# Altium footprint library SamacSys.PcbLib: 6 footprints
Each footprint in its own frame and in the unit in brackets; x right, y up, seen from the top. Pads: shape width x height; smd on the part's side, far side on the other; paste and mask are expansions set on the pad; w line width, h text height; cw(c..) or ccw(c..) is an arc to the next point about the centre after c.
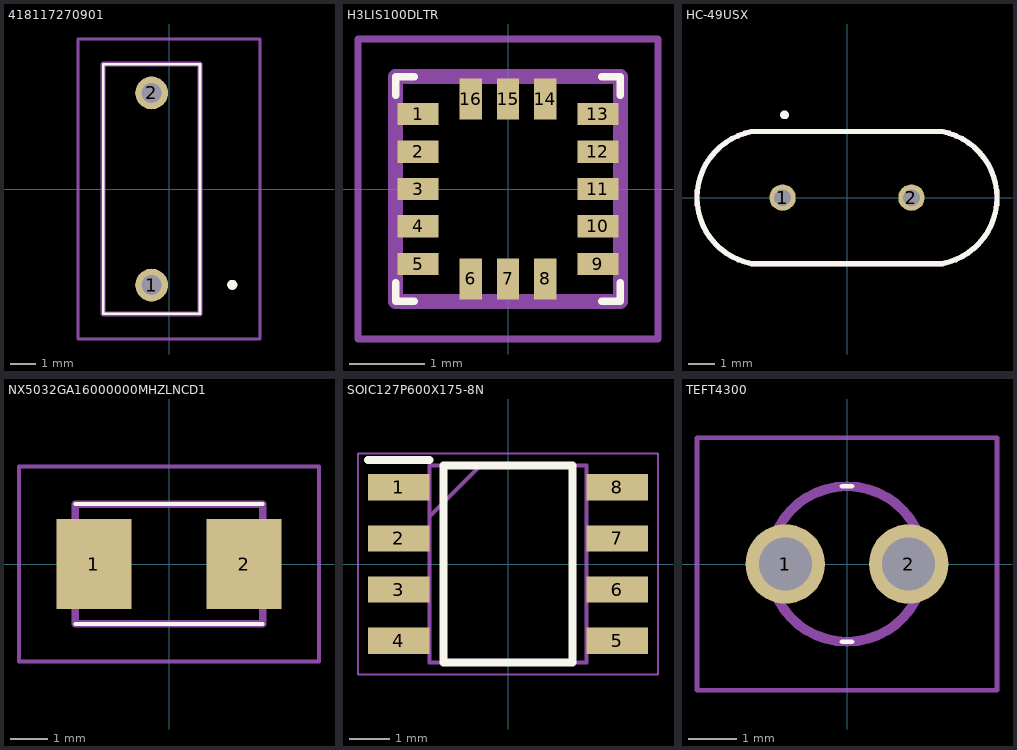
[diagram p0: the footprints below, top view; thin cyan lines are the x and y axes]

## 418117270901 [mm]
pads (2):
  round 1.3 hole 0.8: 1(-0.69,-3.81) 2(-0.69,3.81)
Top Overlay:
  lines w0.1: -2.61,-4.95 -2.61,4.95 1.23,4.95 1.23,-4.95 -2.61,-4.95
  lines w0.2: 2.51,-3.9 ccw(c2.51,-3.8) 2.51,-3.7 ccw(c2.51,-3.8) 2.51,-3.9
Mechanical 13:
  lines w0.2: -2.61,-4.95 -2.61,4.95 1.23,4.95 1.23,-4.95 -2.61,-4.95
Mechanical 15:
  lines w0.1: -3.61,-5.95 -3.61,5.95 3.61,5.95 3.61,-5.95 -3.61,-5.95
3D body "418117270901.stp": height 6.45, standoff -4.1, extent -2.73,-4.95 1.11,4.95

## H3LIS100DLTR [mm]
pads (16):
  rect 0.55x0.3 smd: 1(-1.2,1) 2(-1.2,0.5) 3(-1.2,0) 4(-1.2,-0.5) 5(-1.2,-1) 9(1.2,-1) 10(1.2,-0.5) 11(1.2,0) 12(1.2,0.5) 13(1.2,1)
  rect 0.3x0.55 smd: 6(-0.5,-1.2) 7(0,-1.2) 8(0.5,-1.2) 14(0.5,1.2) 15(0,1.2) 16(-0.5,1.2)
Top Overlay:
  lines w0.1: -1.5,-1.25 -1.5,-1.5 -1.25,-1.5 ; -1.5,1.25 -1.5,1.5 -1.25,1.5 ; 1.25,-1.5 1.5,-1.5 1.5,-1.25 ; 1.25,1.5 1.5,1.5 1.5,1.25
Mechanical 13:
  lines w0.2: -1.5,-1.5 -1.5,1.5 1.5,1.5 1.5,-1.5 -1.5,-1.5
Mechanical 15:
  lines w0.1: -2,-2 -2,2 2,2 2,-2 -2,-2
3D body "L3GD20HTR.stp": height 1, standoff 0, extent -1.5,-1.5 1.5,1.5

## HC-49USX [mm]
pads (2):
  round 1 hole 0.63: 1(-2.44,0) 2(2.44,0)
Top Overlay:
  circle w0.2: c-2.366,3.133 r0.065
  lines w0.2: -3.602,2.5 ccw(c-3.134,0) -3.597,-2.501 ; -3.6,-2.5 3.6,-2.5 ; -3.6,2.5 3.6,2.5 ; 3.597,-2.501 ccw(c3.134,0) 3.602,2.5
Mechanical 13:
  lines w0.2: -3.602,-2.5 cw(c-3.134,0) -3.597,2.501 ; -3.6,-2.5 3.6,-2.5 ; -3.6,2.5 3.6,2.5 ; 3.597,-2.501 ccw(c3.134,0) 3.602,2.5

## NX5032GA16000000MHZLNCD1 [mm]
pads (2):
  rect 2x2.4 smd: 1(-2,0) 2(2,0)
Top Overlay:
  lines w0.1: -2.5,-1.6 2.5,-1.6 ; -2.5,1.6 2.5,1.6
Mechanical 13:
  lines w0.2: -2.5,-1.6 -2.5,1.6 2.5,1.6 2.5,-1.6 -2.5,-1.6
Mechanical 15:
  lines w0.1: -4,-2.6 -4,2.6 4,2.6 4,-2.6 -4,-2.6
3D body "NX5032GA-16.000M-LN-CD-1.stp": height 1.6, standoff 0, extent -2.8,-1.6 2.8,1.6

## SOIC127P600X175-8N [mm]
pads (8):
  rect 1.525x0.65 smd: 1(-2.712,1.905) 2(-2.712,0.635) 3(-2.712,-0.635) 4(-2.712,-1.905) 5(2.712,-1.905) 6(2.712,-0.635) 7(2.712,0.635) 8(2.712,1.905)
Top Overlay:
  lines w0.2: -3.475,2.58 -1.95,2.58 ; -1.6,-2.45 -1.6,2.45 1.6,2.45 1.6,-2.45 -1.6,-2.45
Mechanical 13:
  lines w0.1: -1.95,1.18 -0.68,2.45 ; -1.95,-2.45 -1.95,2.45 1.95,2.45 1.95,-2.45 -1.95,-2.45
Mechanical 15:
  lines w0.05: -3.725,-2.75 -3.725,2.75 3.725,2.75 3.725,-2.75 -3.725,-2.75
3D body "NE555DR.stp": height 1.75, standoff 0, extent -3,-2.45 3,2.45

## TEFT4300 [mm]
pads (2):
  round 1.635 hole 1.09: 1(-1.27,0) 2(1.27,0)
Top Overlay:
  lines w0.1: -0.1,-1.6 0.1,-1.6 ; -0.1,1.6 0.1,1.6
Mechanical 13:
  lines w0.2: 0,-1.6 ccw(c0,0) 0,1.6 ccw(c0,0) 0,-1.6
Mechanical 15:
  lines w0.1: -3.088,-2.6 -3.088,2.6 3.088,2.6 3.088,-2.6 -3.088,-2.6
3D body "TEFT4300.stp": height 0.1, standoff -5, extent -1.715,-0.442 1.715,0.442